# EAGLE library part NA555 (library P1001-001-310 - Eagle Library)
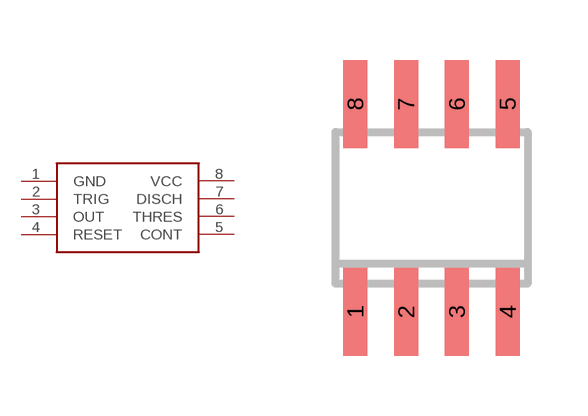
[diagram p4: symbol with the pads of SO8; footprint SO8]

Designator prefix -

## NA555  [SO8]
1  GND
2  TRIG
3  OUT
4  RESET
5  CONT
6  THRES
7  DISCH
8  VCC

## Footprint SO8 (pad centres in mm)
SMALL OUTLINE INTEGRATED CIRCUIT SOP-8L Source: http://www.diodes.com/datasheets/ds31262.pdf
smd 0.6 x 2.2: 1 -1.905,-2.6; 2 -0.635,-2.6; 3 0.635,-2.6; 4 1.905,-2.6; 5 1.905,2.6; 6 0.635,2.6; 7 -0.635,2.6; 8 -1.905,2.6